# EAGLE library part USBLC6 (library ds_ic_peripherals)
Very low capacitance ESD protection
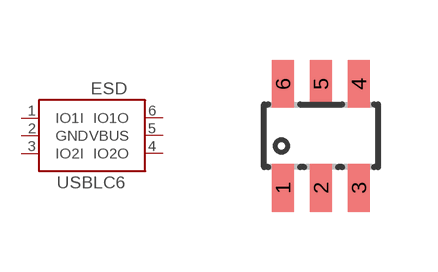
[diagram p21: symbol with the pads of SOT23-6; footprint SOT23-6]

Designator prefix ESD

## USBLC6  [SOT23-6]
1  IO1I
2  GND
3  IO2I
4  IO2O
5  VBUS
6  IO1O

## Footprint SOT23-6 (pad centres in mm)
smd 0.55 x 1.2: 1 -0.95,-1.3; 2 0,-1.3; 3 0.95,-1.3; 4 0.95,1.3; 5 0,1.3; 6 -0.95,1.3